# EAGLE library part TLV5637 (library texas)
DAC - 10 bit, internal Vref
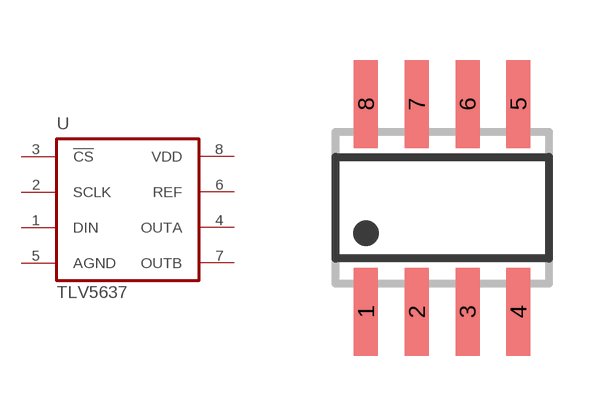
[diagram p67: symbol with the pads of SO08; footprint SO08]

Designator prefix U

## TLV5637D  [SO08]
1  DIN  in
2  SCLK  in
3  !CS!  in
4  OUTA
5  AGND  pwr
6  REF
7  OUTB
8  VDD  pwr

## Footprint SO08 (pad centres in mm)
SMALL OUTLINE INTEGRATED CIRCUIT body 3.9 mm/JEDEC MS-012AA
smd 0.6 x 2.2: 1 -1.905,-2.6; 2 -0.635,-2.6; 3 0.635,-2.6; 4 1.905,-2.6; 5 1.905,2.6; 6 0.635,2.6; 7 -0.635,2.6; 8 -1.905,2.6